# Altium integrated library Maxim Sensors.IntLib: 1172 symbols (part 46 of 61)
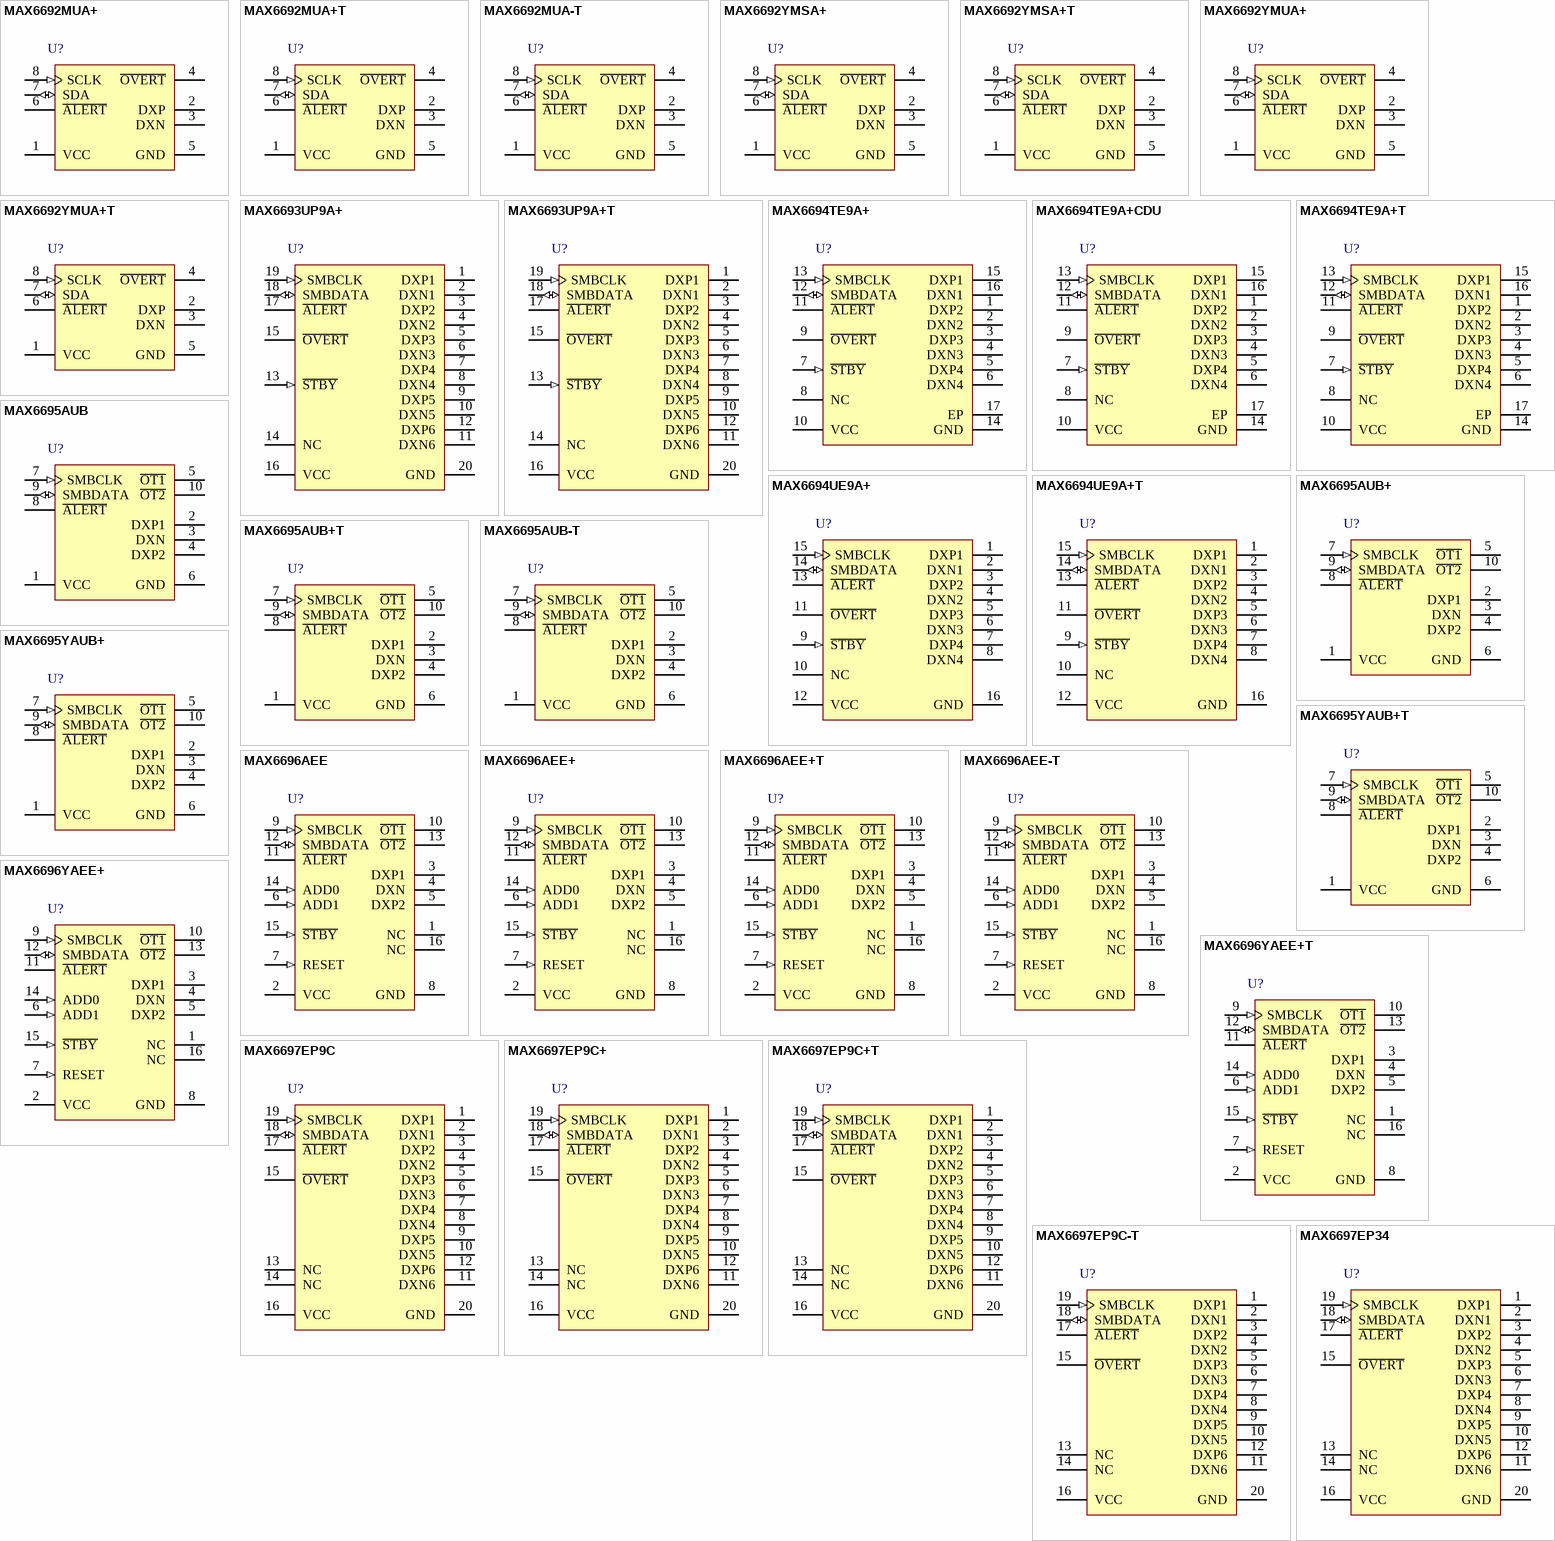
[diagram p78: symbols MAX6692MUA+ to MAX6697EP34]

## MAX6695YAUB+
designator U?
Dual Remote Temperature Sensor with SMBus Interface, -40 to 125 degC, 10-Pin SOP (U10CN1), Pb-Free; Generic Part Number: MAX6695; PartNumber: MAX6695YAUB+; Alarm Output: Alert, Overt; Functions: Dual Temperature Monitor, Remote & Local Sensor; Interface: 2-Wire/I2C/SMBus; Parasite Pwr.: No; DatasheetVersion: Rev. 3; PackageVersion: Rev. L, 07/2008; PackageReference: U10CN+1; PackageDescription: 10-Pin Micro-MAX, Thin Shrink Small-Outline (U10CN+1), Body 3 x 3 mm, Pitch 0.5 mm; Supplier 1: Digi-Key; Supplier Part Number 1: MAX6695YAUB+-ND; Supplier 2: Mouser; Supplier Part Number 2: 700-MAX6695YAUB; Mounting Technology: Surface Mount; Code_JEDEC: MO-187; ComponentLink1Description: Manufacturer URL; ComponentLink1URL: http://www.maximintegrated.com/; ComponentLink2Description: Datasheet; ComponentLink2URL: http://datasheets.maximintegrated.com/en/ds/MAX6695-MAX6696.pdf; ComponentLink3Description: Package Specification; ComponentLink3URL: http://pdfserv.maximintegrated.com/package_dwgs/21-0061.PDF
footprint MAXM-U10CN+1_N (SOP, 10-Leads, Body 3x3mm, Pitch 0.5mm, IPC Medium Density)
footprint MAXM-U10CN+1_L (SOP, 10-Leads, Body 3x3mm, Pitch 0.5mm, IPC High Density)
footprint MAXM-U10CN+1_M (SOP, 10-Leads, Body 3x3mm, Pitch 0.5mm, IPC Low Density)
pins: 1 VCC (power) "Supply Voltage Input, +3V to +3.6V. Bypass to GND with a 0.1µF capacitor. A 47 ohm series resistor is recommended but not required for additional noise filtering. See Typical Operating Circuit.", 2 DXP1 "Combined Remote-Diode Current Source and A/D Positive Input for Remote-Diode Channel 1. DO NOT LEAVE DXP1 UNCONNECTED; connect DXP1 to DXN if no remote diode is used. Place a 2200pF capacitor between DXP1 and DXN for noise (See Datasheet)", 3 DXN "Combined Remote-Diode Current Sink and A/D Negative Input. DXN is internally biased to one diode drop above ground.", 4 DXP2 "Combined Remote-Diode Current Source and A/D Positive Input for Remote-Diode Channel 2. DO NOT LEAVE DXP2 UNCONNECTED; connect DXP2 to DXN if no remote diode is used. Place a 2200pF capacitor between DXP2 and DXN for noise (See Datasheet)", 5 ~{OT1} (oc) "Overtemperature Active-Low Output, Open Drain. O\T\1\ is asserted low only when the temperature is above the programmed OT1 threshold.", 6 GND (power) "Ground", 7 SMBCLK (in) "SMBus Serial-Clock Input", 8 ~{ALERT} (oc) "SMBus Alert (Interrupt) Active-Low Output, Open-Drain. Asserts when temperature exceeds user-set limits (high or low temperature) or when a remote sensor opens. Stays asserted until acknowledged by either reading the status (See Datasheet)", 9 SMBDATA (io) "SMBus Serial-Data Input/Output, Open Drain", 10 ~{OT2} (oc) "Overtemperature Active-Low Output, Open Drain. O\T\2\ is asserted low only when temperature is above the programmed OT2 threshold."

## MAX6695YAUB+T
designator U?
Dual Remote Temperature Sensor with SMBus Interface, -40 to 125 degC, 10-Pin SOP (U10CN1), Pb-Free, Tape and Reel; Generic Part Number: MAX6695; PartNumber: MAX6695YAUB+T; Alarm Output: Alert, Overt; Functions: Dual Temperature Monitor, Remote & Local Sensor; Interface: 2-Wire/I2C/SMBus; Parasite Pwr.: No; DatasheetVersion: Rev. 3; PackageVersion: Rev. L, 07/2008; PackageReference: U10CN+1; PackageDescription: 10-Pin Micro-MAX, Thin Shrink Small-Outline (U10CN+1), Body 3 x 3 mm, Pitch 0.5 mm; Supplier 1: Digi-Key; Supplier Part Number 1: MAX6695YAUB+T-ND; Supplier 2: Mouser; Supplier Part Number 2: 700-MAX6695YAUBT; Packing: Tape and Reel; Mounting Technology: Surface Mount; Code_JEDEC: MO-187; ComponentLink1Description: Manufacturer URL; ComponentLink1URL: http://www.maximintegrated.com/; ComponentLink2Description: Datasheet; ComponentLink2URL: http://datasheets.maximintegrated.com/en/ds/MAX6695-MAX6696.pdf; ComponentLink3Description: Package Specification; ComponentLink3URL: http://pdfserv.maximintegrated.com/package_dwgs/21-0061.PDF
footprint MAXM-U10CN+1_N (SOP, 10-Leads, Body 3x3mm, Pitch 0.5mm, IPC Medium Density)
footprint MAXM-U10CN+1_L (SOP, 10-Leads, Body 3x3mm, Pitch 0.5mm, IPC High Density)
footprint MAXM-U10CN+1_M (SOP, 10-Leads, Body 3x3mm, Pitch 0.5mm, IPC Low Density)
pins: 1 VCC (power) "Supply Voltage Input, +3V to +3.6V. Bypass to GND with a 0.1µF capacitor. A 47 ohm series resistor is recommended but not required for additional noise filtering. See Typical Operating Circuit.", 2 DXP1 "Combined Remote-Diode Current Source and A/D Positive Input for Remote-Diode Channel 1. DO NOT LEAVE DXP1 UNCONNECTED; connect DXP1 to DXN if no remote diode is used. Place a 2200pF capacitor between DXP1 and DXN for noise (See Datasheet)", 3 DXN "Combined Remote-Diode Current Sink and A/D Negative Input. DXN is internally biased to one diode drop above ground.", 4 DXP2 "Combined Remote-Diode Current Source and A/D Positive Input for Remote-Diode Channel 2. DO NOT LEAVE DXP2 UNCONNECTED; connect DXP2 to DXN if no remote diode is used. Place a 2200pF capacitor between DXP2 and DXN for noise (See Datasheet)", 5 ~{OT1} (oc) "Overtemperature Active-Low Output, Open Drain. O\T\1\ is asserted low only when the temperature is above the programmed OT1 threshold.", 6 GND (power) "Ground", 7 SMBCLK (in) "SMBus Serial-Clock Input", 8 ~{ALERT} (oc) "SMBus Alert (Interrupt) Active-Low Output, Open-Drain. Asserts when temperature exceeds user-set limits (high or low temperature) or when a remote sensor opens. Stays asserted until acknowledged by either reading the status (See Datasheet)", 9 SMBDATA (io) "SMBus Serial-Data Input/Output, Open Drain", 10 ~{OT2} (oc) "Overtemperature Active-Low Output, Open Drain. O\T\2\ is asserted low only when temperature is above the programmed OT2 threshold."

## MAX6696AEE
designator U?
Dual Temperature Sensor with SMBus Interface, -40 to 125 degC, 16-Pin SOP (E16-1); Generic Part Number: MAX6696; PartNumber: MAX6696AEE; Alarm Output: Alert, Overt; Interface: 2-Wire/I2C/SMBus; Parasite Pwr.: No; DatasheetVersion: Rev. 3; PackageVersion: Rev. K, 04/2012; PackageReference: E16-1; PackageDescription: 16-Pin Quarter Small-Outline Package (E16-1), Body 4.90 x 3.89 mm, Pitch 0.635 mm; Supplier 1: Mouser; Supplier Part Number 1: N/A; Functions: Dual Temperature Sensor; Mounting Technology: Surface Mount; Code_JEDEC: MO137; ComponentLink1Description: Manufacturer URL; ComponentLink1URL: http://www.maximintegrated.com/; ComponentLink2Description: Datasheet; ComponentLink2URL: http://datasheets.maximintegrated.com/en/ds/MAX6695-MAX6696.pdf; ComponentLink3Description: Package Specification; ComponentLink3URL: http://pdfserv.maximintegrated.com/package_dwgs/21-0055.PDF
footprint MAXM-E16-1_N (SOP, 16-Leads, Body 4.9x3.89mm, Pitch 0.635mm, IPC Medium Density)
footprint MAXM-E16-1_L (SOP, 16-Leads, Body 4.9x3.89mm, Pitch 0.635mm, IPC High Density)
footprint MAXM-E16-1_M (SOP, 16-Leads, Body 4.9x3.89mm, Pitch 0.635mm, IPC Low Density)
pins: 1 NC "No Connect", 2 VCC (power) "Supply Voltage Input, +3V to +3.6V. Bypass to GND with a 0.1uF capacitor. A 47 ohm series resistor is recommended but not required for additional noise filtering. See Typical Operating Circuit.", 3 DXP1 "Combined Remote-Diode Current Source and A/D Positive Input for Remote-Diode Channel 1. DO NOT LEAVE DXP1 UNCONNECTED; connect DXP1 to DXN if no remote diode is used. Place a 2200pF capacitor between DXP1 and DXN for noise (See Datasheet)", 4 DXN "Combined Remote-Diode Current Sink and A/D Negative Input. DXN is internally biased to one diode drop above ground.", 5 DXP2 "Combined Remote-Diode Current Source and A/D Positive Input for Remote-Diode Channel 2. DO NOT LEAVE DXP2 UNCONNECTED; connect DXP2 to DXN if no remote diode is used. Place a 2200pF capacitor between DXP2 and DXN for noise (See Datasheet)", 6 ADD1 (in) "SMBus Slave Address Select Input (Table 10). ADD0 and ADD1 are sampled upon power-up.", 7 RESET (in) "Reset Input. Drive RESET high to set all registers to their default values (POR state). Pull RESET low for normal operation.", 8 GND (power) "Ground", 9 SMBCLK (in) "SMBus Serial-Clock Input", 10 ~{OT1} (oc) "Overtemperature Active-Low Output, Open Drain. O\T\1\ is asserted low only when the temperature is above the programmed OT1 threshold.", 11 ~{ALERT} (oc) "SMBus Alert (Interrupt) Active-Low Output, Open-Drain. Asserts when temperature exceeds user-set limits (high or low temperature) or when a remote sensor opens. Stays asserted until acknowledged by either reading the status (See Datasheet)", 12 SMBDATA (io) "SMBus Serial-Data Input/Output, Open Drain", 13 ~{OT2} (oc) "Overtemperature Active-Low Output, Open Drain. O\T\2\ is asserted low only when temperature is above the programmed OT2 threshold.", 14 ADD0 (in) "SMBus Slave Address Select Input (Table 10). ADD0 and ADD1 are sampled upon power-up.", 15 ~{STBY} (in) "Hardware Standby Input. Pull S\T\B\Y\ low to put the device into standby mode. All registers’ data are maintained.", 16 NC "No Connect"

## MAX6696AEE+
designator U?
Dual Temperature Sensor with SMBus Interface, -40 to 125 degC, 16-Pin SOP (E16+1), Pb-Free; Generic Part Number: MAX6696; PartNumber: MAX6696AEE+; Alarm Output: Alert, Overt; Interface: 2-Wire/I2C/SMBus; Parasite Pwr.: No; DatasheetVersion: Rev. 3; PackageVersion: Rev. K, 04/2012; PackageReference: E16+1; PackageDescription: 16-Pin Quarter Small-Outline Package (E16+1), Body 4.90 x 3.89 mm, Pitch 0.635 mm; Supplier 1: Digi-Key; Supplier Part Number 1: MAX6696AEE+-ND; Supplier 2: Mouser; Supplier Part Number 2: 700-MAX6696AEE; Functions: Dual Temperature Sensor; Mounting Technology: Surface Mount; Code_JEDEC: MO137; ComponentLink1Description: Manufacturer URL; ComponentLink1URL: http://www.maximintegrated.com/; ComponentLink2Description: Datasheet; ComponentLink2URL: http://datasheets.maximintegrated.com/en/ds/MAX6695-MAX6696.pdf; ComponentLink3Description: Package Specification; ComponentLink3URL: http://pdfserv.maximintegrated.com/package_dwgs/21-0055.PDF
footprint MAXM-E16+1_N (SOP, 16-Leads, Body 4.9x3.89mm, Pitch 0.635mm, IPC Medium Density)
footprint MAXM-E16+1_L (SOP, 16-Leads, Body 4.9x3.89mm, Pitch 0.635mm, IPC High Density)
footprint MAXM-E16+1_M (SOP, 16-Leads, Body 4.9x3.89mm, Pitch 0.635mm, IPC Low Density)
pins: 1 NC "No Connect", 2 VCC (power) "Supply Voltage Input, +3V to +3.6V. Bypass to GND with a 0.1uF capacitor. A 47 ohm series resistor is recommended but not required for additional noise filtering. See Typical Operating Circuit.", 3 DXP1 "Combined Remote-Diode Current Source and A/D Positive Input for Remote-Diode Channel 1. DO NOT LEAVE DXP1 UNCONNECTED; connect DXP1 to DXN if no remote diode is used. Place a 2200pF capacitor between DXP1 and DXN for noise (See Datasheet)", 4 DXN "Combined Remote-Diode Current Sink and A/D Negative Input. DXN is internally biased to one diode drop above ground.", 5 DXP2 "Combined Remote-Diode Current Source and A/D Positive Input for Remote-Diode Channel 2. DO NOT LEAVE DXP2 UNCONNECTED; connect DXP2 to DXN if no remote diode is used. Place a 2200pF capacitor between DXP2 and DXN for noise (See Datasheet)", 6 ADD1 (in) "SMBus Slave Address Select Input (Table 10). ADD0 and ADD1 are sampled upon power-up.", 7 RESET (in) "Reset Input. Drive RESET high to set all registers to their default values (POR state). Pull RESET low for normal operation.", 8 GND (power) "Ground", 9 SMBCLK (in) "SMBus Serial-Clock Input", 10 ~{OT1} (oc) "Overtemperature Active-Low Output, Open Drain. O\T\1\ is asserted low only when the temperature is above the programmed OT1 threshold.", 11 ~{ALERT} (oc) "SMBus Alert (Interrupt) Active-Low Output, Open-Drain. Asserts when temperature exceeds user-set limits (high or low temperature) or when a remote sensor opens. Stays asserted until acknowledged by either reading the status (See Datasheet)", 12 SMBDATA (io) "SMBus Serial-Data Input/Output, Open Drain", 13 ~{OT2} (oc) "Overtemperature Active-Low Output, Open Drain. O\T\2\ is asserted low only when temperature is above the programmed OT2 threshold.", 14 ADD0 (in) "SMBus Slave Address Select Input (Table 10). ADD0 and ADD1 are sampled upon power-up.", 15 ~{STBY} (in) "Hardware Standby Input. Pull S\T\B\Y\ low to put the device into standby mode. All registers’ data are maintained.", 16 NC "No Connect"

## MAX6696AEE+T
designator U?
Dual Temperature Sensor with SMBus Interface, -40 to 125 degC, 16-Pin SOP (E16+1), Pb-Free, Tape and Reel; Generic Part Number: MAX6696; PartNumber: MAX6696AEE+T; Alarm Output: Alert, Overt; Interface: 2-Wire/I2C/SMBus; Parasite Pwr.: No; DatasheetVersion: Rev. 3; PackageVersion: Rev. K, 04/2012; PackageReference: E16+1; PackageDescription: 16-Pin Quarter Small-Outline Package (E16+1), Body 4.90 x 3.89 mm, Pitch 0.635 mm; Supplier 1: Digi-Key; Supplier Part Number 1: MAX6696AEE+TTR-ND; Supplier 2: Digi-Key; Supplier Part Number 2: MAX6696AEE+TCT-ND; Supplier 3: Digi-Key; Supplier Part Number 3: MAX6696AEE+TDKR-ND; Supplier 4: Mouser; Supplier Part Number 4: 700-MAX6696AEET; Functions: Dual Temperature Sensor; Packing: Tape and Reel; Mounting Technology: Surface Mount; Code_JEDEC: MO137; ComponentLink1Description: Manufacturer URL; ComponentLink1URL: http://www.maximintegrated.com/; ComponentLink2Description: Datasheet; ComponentLink2URL: http://datasheets.maximintegrated.com/en/ds/MAX6695-MAX6696.pdf; ComponentLink3Description: Package Specification; ComponentLink3URL: http://pdfserv.maximintegrated.com/package_dwgs/21-0055.PDF
footprint MAXM-E16+1_N (SOP, 16-Leads, Body 4.9x3.89mm, Pitch 0.635mm, IPC Medium Density)
footprint MAXM-E16+1_L (SOP, 16-Leads, Body 4.9x3.89mm, Pitch 0.635mm, IPC High Density)
footprint MAXM-E16+1_M (SOP, 16-Leads, Body 4.9x3.89mm, Pitch 0.635mm, IPC Low Density)
pins: 1 NC "No Connect", 2 VCC (power) "Supply Voltage Input, +3V to +3.6V. Bypass to GND with a 0.1uF capacitor. A 47 ohm series resistor is recommended but not required for additional noise filtering. See Typical Operating Circuit.", 3 DXP1 "Combined Remote-Diode Current Source and A/D Positive Input for Remote-Diode Channel 1. DO NOT LEAVE DXP1 UNCONNECTED; connect DXP1 to DXN if no remote diode is used. Place a 2200pF capacitor between DXP1 and DXN for noise (See Datasheet)", 4 DXN "Combined Remote-Diode Current Sink and A/D Negative Input. DXN is internally biased to one diode drop above ground.", 5 DXP2 "Combined Remote-Diode Current Source and A/D Positive Input for Remote-Diode Channel 2. DO NOT LEAVE DXP2 UNCONNECTED; connect DXP2 to DXN if no remote diode is used. Place a 2200pF capacitor between DXP2 and DXN for noise (See Datasheet)", 6 ADD1 (in) "SMBus Slave Address Select Input (Table 10). ADD0 and ADD1 are sampled upon power-up.", 7 RESET (in) "Reset Input. Drive RESET high to set all registers to their default values (POR state). Pull RESET low for normal operation.", 8 GND (power) "Ground", 9 SMBCLK (in) "SMBus Serial-Clock Input", 10 ~{OT1} (oc) "Overtemperature Active-Low Output, Open Drain. O\T\1\ is asserted low only when the temperature is above the programmed OT1 threshold.", 11 ~{ALERT} (oc) "SMBus Alert (Interrupt) Active-Low Output, Open-Drain. Asserts when temperature exceeds user-set limits (high or low temperature) or when a remote sensor opens. Stays asserted until acknowledged by either reading the status (See Datasheet)", 12 SMBDATA (io) "SMBus Serial-Data Input/Output, Open Drain", 13 ~{OT2} (oc) "Overtemperature Active-Low Output, Open Drain. O\T\2\ is asserted low only when temperature is above the programmed OT2 threshold.", 14 ADD0 (in) "SMBus Slave Address Select Input (Table 10). ADD0 and ADD1 are sampled upon power-up.", 15 ~{STBY} (in) "Hardware Standby Input. Pull S\T\B\Y\ low to put the device into standby mode. All registers’ data are maintained.", 16 NC "No Connect"

## MAX6696AEE-T
designator U?
Dual Temperature Sensor with SMBus Interface, -40 to 125 degC, 16-Pin SOP (E16-1), Tape and Reel; Generic Part Number: MAX6696; PartNumber: MAX6696AEE-T; Alarm Output: Alert, Overt; Interface: 2-Wire/I2C/SMBus; Parasite Pwr.: No; DatasheetVersion: Rev. 3; PackageVersion: Rev. K, 04/2012; PackageReference: E16-1; PackageDescription: 16-Pin Quarter Small-Outline Package (E16-1), Body 4.90 x 3.89 mm, Pitch 0.635 mm; Supplier 1: Mouser; Supplier Part Number 1: N/A; Functions: Dual Temperature Sensor; Packing: Tape and Reel; Mounting Technology: Surface Mount; Code_JEDEC: MO137; ComponentLink1Description: Manufacturer URL; ComponentLink1URL: http://www.maximintegrated.com/; ComponentLink2Description: Datasheet; ComponentLink2URL: http://datasheets.maximintegrated.com/en/ds/MAX6695-MAX6696.pdf; ComponentLink3Description: Package Specification; ComponentLink3URL: http://pdfserv.maximintegrated.com/package_dwgs/21-0055.PDF
footprint MAXM-E16-1_N (SOP, 16-Leads, Body 4.9x3.89mm, Pitch 0.635mm, IPC Medium Density)
footprint MAXM-E16-1_L (SOP, 16-Leads, Body 4.9x3.89mm, Pitch 0.635mm, IPC High Density)
footprint MAXM-E16-1_M (SOP, 16-Leads, Body 4.9x3.89mm, Pitch 0.635mm, IPC Low Density)
pins: 1 NC "No Connect", 2 VCC (power) "Supply Voltage Input, +3V to +3.6V. Bypass to GND with a 0.1uF capacitor. A 47 ohm series resistor is recommended but not required for additional noise filtering. See Typical Operating Circuit.", 3 DXP1 "Combined Remote-Diode Current Source and A/D Positive Input for Remote-Diode Channel 1. DO NOT LEAVE DXP1 UNCONNECTED; connect DXP1 to DXN if no remote diode is used. Place a 2200pF capacitor between DXP1 and DXN for noise (See Datasheet)", 4 DXN "Combined Remote-Diode Current Sink and A/D Negative Input. DXN is internally biased to one diode drop above ground.", 5 DXP2 "Combined Remote-Diode Current Source and A/D Positive Input for Remote-Diode Channel 2. DO NOT LEAVE DXP2 UNCONNECTED; connect DXP2 to DXN if no remote diode is used. Place a 2200pF capacitor between DXP2 and DXN for noise (See Datasheet)", 6 ADD1 (in) "SMBus Slave Address Select Input (Table 10). ADD0 and ADD1 are sampled upon power-up.", 7 RESET (in) "Reset Input. Drive RESET high to set all registers to their default values (POR state). Pull RESET low for normal operation.", 8 GND (power) "Ground", 9 SMBCLK (in) "SMBus Serial-Clock Input", 10 ~{OT1} (oc) "Overtemperature Active-Low Output, Open Drain. O\T\1\ is asserted low only when the temperature is above the programmed OT1 threshold.", 11 ~{ALERT} (oc) "SMBus Alert (Interrupt) Active-Low Output, Open-Drain. Asserts when temperature exceeds user-set limits (high or low temperature) or when a remote sensor opens. Stays asserted until acknowledged by either reading the status (See Datasheet)", 12 SMBDATA (io) "SMBus Serial-Data Input/Output, Open Drain", 13 ~{OT2} (oc) "Overtemperature Active-Low Output, Open Drain. O\T\2\ is asserted low only when temperature is above the programmed OT2 threshold.", 14 ADD0 (in) "SMBus Slave Address Select Input (Table 10). ADD0 and ADD1 are sampled upon power-up.", 15 ~{STBY} (in) "Hardware Standby Input. Pull S\T\B\Y\ low to put the device into standby mode. All registers’ data are maintained.", 16 NC "No Connect"

## MAX6696YAEE+
designator U?
Dual Temperature Sensor with SMBus Interface, -40 to 125 degC, 16-Pin SOP (E16+1), Pb-Free; Generic Part Number: MAX6696; PartNumber: MAX6696YAEE+; Alarm Output: Alert, Overt; Interface: 2-Wire/I2C/SMBus; Parasite Pwr.: No; DatasheetVersion: Rev. 3; PackageVersion: Rev. K, 04/2012; PackageReference: E16+1; PackageDescription: 16-Pin Quarter Small-Outline Package (E16+1), Body 4.90 x 3.89 mm, Pitch 0.635 mm; Supplier 1: Digi-Key; Supplier Part Number 1: MAX6696YAEE+-ND; Supplier 2: Mouser; Supplier Part Number 2: 700-MAX6696YAEE; Functions: Dual Temperature Sensor; Mounting Technology: Surface Mount; Code_JEDEC: MO137; ComponentLink1Description: Manufacturer URL; ComponentLink1URL: http://www.maximintegrated.com/; ComponentLink2Description: Datasheet; ComponentLink2URL: http://datasheets.maximintegrated.com/en/ds/MAX6695-MAX6696.pdf; ComponentLink3Description: Package Specification; ComponentLink3URL: http://pdfserv.maximintegrated.com/package_dwgs/21-0055.PDF
footprint MAXM-E16+1_N (SOP, 16-Leads, Body 4.9x3.89mm, Pitch 0.635mm, IPC Medium Density)
footprint MAXM-E16+1_L (SOP, 16-Leads, Body 4.9x3.89mm, Pitch 0.635mm, IPC High Density)
footprint MAXM-E16+1_M (SOP, 16-Leads, Body 4.9x3.89mm, Pitch 0.635mm, IPC Low Density)
pins: 1 NC "No Connect", 2 VCC (power) "Supply Voltage Input, +3V to +3.6V. Bypass to GND with a 0.1uF capacitor. A 47 ohm series resistor is recommended but not required for additional noise filtering. See Typical Operating Circuit.", 3 DXP1 "Combined Remote-Diode Current Source and A/D Positive Input for Remote-Diode Channel 1. DO NOT LEAVE DXP1 UNCONNECTED; connect DXP1 to DXN if no remote diode is used. Place a 2200pF capacitor between DXP1 and DXN for noise (See Datasheet)", 4 DXN "Combined Remote-Diode Current Sink and A/D Negative Input. DXN is internally biased to one diode drop above ground.", 5 DXP2 "Combined Remote-Diode Current Source and A/D Positive Input for Remote-Diode Channel 2. DO NOT LEAVE DXP2 UNCONNECTED; connect DXP2 to DXN if no remote diode is used. Place a 2200pF capacitor between DXP2 and DXN for noise (See Datasheet)", 6 ADD1 (in) "SMBus Slave Address Select Input (Table 10). ADD0 and ADD1 are sampled upon power-up.", 7 RESET (in) "Reset Input. Drive RESET high to set all registers to their default values (POR state). Pull RESET low for normal operation.", 8 GND (power) "Ground", 9 SMBCLK (in) "SMBus Serial-Clock Input", 10 ~{OT1} (oc) "Overtemperature Active-Low Output, Open Drain. O\T\1\ is asserted low only when the temperature is above the programmed OT1 threshold.", 11 ~{ALERT} (oc) "SMBus Alert (Interrupt) Active-Low Output, Open-Drain. Asserts when temperature exceeds user-set limits (high or low temperature) or when a remote sensor opens. Stays asserted until acknowledged by either reading the status (See Datasheet)", 12 SMBDATA (io) "SMBus Serial-Data Input/Output, Open Drain", 13 ~{OT2} (oc) "Overtemperature Active-Low Output, Open Drain. O\T\2\ is asserted low only when temperature is above the programmed OT2 threshold.", 14 ADD0 (in) "SMBus Slave Address Select Input (Table 10). ADD0 and ADD1 are sampled upon power-up.", 15 ~{STBY} (in) "Hardware Standby Input. Pull S\T\B\Y\ low to put the device into standby mode. All registers’ data are maintained.", 16 NC "No Connect"

## MAX6696YAEE+T
designator U?
Dual Temperature Sensor with SMBus Interface, -40 to 125 degC, 16-Pin SOP (E16+1), Pb-Free, Tape and Reel; Generic Part Number: MAX6696; PartNumber: MAX6696YAEE+T; Alarm Output: Alert, Overt; Interface: 2-Wire/I2C/SMBus; Parasite Pwr.: No; DatasheetVersion: Rev. 3; PackageVersion: Rev. K, 04/2012; PackageReference: E16+1; PackageDescription: 16-Pin Quarter Small-Outline Package (E16+1), Body 4.90 x 3.89 mm, Pitch 0.635 mm; Supplier 1: Digi-Key; Supplier Part Number 1: MAX6696YAEE+T-ND; Supplier 2: Mouser; Supplier Part Number 2: 700-MAX6696YAEET; Functions: Dual Temperature Sensor; Packing: Tape and Reel; Mounting Technology: Surface Mount; Code_JEDEC: MO137; ComponentLink1Description: Manufacturer URL; ComponentLink1URL: http://www.maximintegrated.com/; ComponentLink2Description: Datasheet; ComponentLink2URL: http://datasheets.maximintegrated.com/en/ds/MAX6695-MAX6696.pdf; ComponentLink3Description: Package Specification; ComponentLink3URL: http://pdfserv.maximintegrated.com/package_dwgs/21-0055.PDF
footprint MAXM-E16+1_N (SOP, 16-Leads, Body 4.9x3.89mm, Pitch 0.635mm, IPC Medium Density)
footprint MAXM-E16+1_L (SOP, 16-Leads, Body 4.9x3.89mm, Pitch 0.635mm, IPC High Density)
footprint MAXM-E16+1_M (SOP, 16-Leads, Body 4.9x3.89mm, Pitch 0.635mm, IPC Low Density)
pins: 1 NC "No Connect", 2 VCC (power) "Supply Voltage Input, +3V to +3.6V. Bypass to GND with a 0.1uF capacitor. A 47 ohm series resistor is recommended but not required for additional noise filtering. See Typical Operating Circuit.", 3 DXP1 "Combined Remote-Diode Current Source and A/D Positive Input for Remote-Diode Channel 1. DO NOT LEAVE DXP1 UNCONNECTED; connect DXP1 to DXN if no remote diode is used. Place a 2200pF capacitor between DXP1 and DXN for noise (See Datasheet)", 4 DXN "Combined Remote-Diode Current Sink and A/D Negative Input. DXN is internally biased to one diode drop above ground.", 5 DXP2 "Combined Remote-Diode Current Source and A/D Positive Input for Remote-Diode Channel 2. DO NOT LEAVE DXP2 UNCONNECTED; connect DXP2 to DXN if no remote diode is used. Place a 2200pF capacitor between DXP2 and DXN for noise (See Datasheet)", 6 ADD1 (in) "SMBus Slave Address Select Input (Table 10). ADD0 and ADD1 are sampled upon power-up.", 7 RESET (in) "Reset Input. Drive RESET high to set all registers to their default values (POR state). Pull RESET low for normal operation.", 8 GND (power) "Ground", 9 SMBCLK (in) "SMBus Serial-Clock Input", 10 ~{OT1} (oc) "Overtemperature Active-Low Output, Open Drain. O\T\1\ is asserted low only when the temperature is above the programmed OT1 threshold.", 11 ~{ALERT} (oc) "SMBus Alert (Interrupt) Active-Low Output, Open-Drain. Asserts when temperature exceeds user-set limits (high or low temperature) or when a remote sensor opens. Stays asserted until acknowledged by either reading the status (See Datasheet)", 12 SMBDATA (io) "SMBus Serial-Data Input/Output, Open Drain", 13 ~{OT2} (oc) "Overtemperature Active-Low Output, Open Drain. O\T\2\ is asserted low only when temperature is above the programmed OT2 threshold.", 14 ADD0 (in) "SMBus Slave Address Select Input (Table 10). ADD0 and ADD1 are sampled upon power-up.", 15 ~{STBY} (in) "Hardware Standby Input. Pull S\T\B\Y\ low to put the device into standby mode. All registers’ data are maintained.", 16 NC "No Connect"

## MAX6697EP9C
designator U?
Seven-Channel Temperature Monitor, 11 Bits Temperature Resolution, -40 to 125 degC, 20-Pin SOP (E20-1); Generic Part Number: MAX6697; PartNumber: MAX6697EP9C; Alarm Output: Alert, Overt; Functions: Dual Temperature Alarms, Multi-Channel Temperature Monitor ,Remote & Local Sensor; Interface: 2-Wire/I2C/SMBus; Parasite Pwr.: No; DatasheetVersion: Rev. 3; PackageVersion: Rev. K, 04/2012; PackageReference: E20-1; PackageDescription: 20-Pin Quarter Small-Outline Package, Body 3.9 x 8.65 mm, Pitch 0.635 mm; Supplier 1: Mouser; Supplier Part Number 1: N/A; Mounting Technology: Surface Mount; Code_JEDEC: MO-137; ComponentLink1Description: Manufacturer URL; ComponentLink1URL: http://www.maximintegrated.com/; ComponentLink2Description: Datasheet; ComponentLink2URL: http://datasheets.maximintegrated.com/en/ds/MAX6697.pdf; ComponentLink3Description: Package Specification; ComponentLink3URL: http://pdfserv.maximintegrated.com/package_dwgs/21-0055.PDF
footprint MAXM-E20-1_N (SOP, 20-Leads, Body 8.65x3.9mm, Pitch 0.635mm, IPC Medium Density)
footprint MAXM-E20-1_L (SOP, 20-Leads, Body 8.65x3.9mm, Pitch 0.635mm, IPC High Density)
footprint MAXM-E20-1_M (SOP, 20-Leads, Body 8.65x3.9mm, Pitch 0.635mm, IPC Low Density)
pins: 1 DXP1 "Combined Current Source and A/D Positive Input for Channel 1 Remote Diode. Connect to the anode of a remote-diode-connected temperature-sensing transistor. Leave floating or connect to VCC if no remote diode is used. Place a (See Datasheet)", 2 DXN1 "Cathode Input for Channel 1 Remote Diode. Connect the cathode of the channel 1 remote-diodeconnected transistor to DXN1.", 3 DXP2 "Combined Current Source and A/D Positive Input for Channel 2 Remote Diode. Connect to the anode of a remote-diode-connected temperature-sensing transistor. Leave floating or connect to VCC if no remote diode is used. Place a (See Datasheet)", 4 DXN2 "Cathode Input for Channel 2 Remote Diode. Connect the cathode of the channel 2 remote-diodeconnected transistor to DXN2.", 5 DXP3 "Combined Current Source and A/D Positive Input for Channel 3 Remote Diode. Connect to the anode of a remote-diode-connected temperature-sensing transistor. Leave floating or connect to VCC if no remote diode is used. Place a (See Datasheet)", 6 DXN3 "Cathode Input for Channel 3 Remote Diode. Connect the cathode of the channel 3 remote-diodeconnected transistor to DXN3.", 7 DXP4 "Combined Current Source and A/D Positive Input for Channel 4 Remote Diode. Connect to the anode of a remote-diode-connected temperature-sensing transistor. Leave floating or connect to VCC if no remote diode is used. Place a (See Datasheet)", 8 DXN4 "Cathode Input for Channel 4 Remote Diode. Connect the cathode of the channel 4 remote-diodeconnected transistor to DXN4.", 9 DXP5 "Combined Current Source and A/D Positive Input for Channel 5 Remote Diode. Connect to the anode of a remote-diode-connected temperature-sensing transistor. Leave floating or connect to VCC if no remote diode is used. Place a (See Datasheet)", 10 DXN5 "Cathode Input for Channel 5 Remote Diode. Connect the cathode of the channel 5 remote-diodeconnected transistor to DXN5.", 11 DXN6 "Cathode Input for Channel 6 Remote Diode. Connect the cathode of the channel 6 remote-diodeconnected transistor to DXN6.", 12 DXP6 "Combined Current Source and A/D Positive Input for Channel 6 Remote Diode. Connect to the anode of a remote-diode-connected temperature-sensing transistor. Leave floating or connect to VCC if no remote diode is used. Place a (See Datasheet)", 13 NC "No Connect. Must be connected to ground.", 14 NC "No Connect. Must be connected to ground.", 15 ~{OVERT} (oc) "Overtemperature Active-Low, Open-Drain Output. O\V\E\R\T\ asserts low when the temperature of channels 1, 4, 5, and 6 exceeds the programmed threshold limit.", 16 VCC (power) "Supply Voltage Input. Bypass to GND with a 0.1µF capacitor.", 17 ~{ALERT} (oc) "SMBus Alert (Interrupt), Active-Low, Open-Drain Output. A\L\E\R\T\ asserts low when the temperature of any channel exceeds the programmed A\L\E\R\T\ threshold.", 18 SMBDATA (io) "SMBus Serial-Data Input/Output. Connect to a pullup resistor.", 19 SMBCLK (in) "SMBus Serial-Clock Input. Connect to a pullup resistor.", 20 GND (power) "Ground"

## MAX6697EP9C+
designator U?
Seven-Channel Temperature Monitor, 11 Bits Temperature Resolution, -40 to 125 degC, 20-Pin SOP (E20+1), Pb-Free; Generic Part Number: MAX6697; PartNumber: MAX6697EP9C+; Alarm Output: Alert, Overt; Functions: Dual Temperature Alarms, Multi-Channel Temperature Monitor ,Remote & Local Sensor; Interface: 2-Wire/I2C/SMBus; Parasite Pwr.: No; DatasheetVersion: Rev. 3; PackageVersion: Rev. K, 04/2012; PackageReference: E20+1; PackageDescription: 20-Pin Quarter Small-Outline Package, Body 3.9 x 8.65 mm, Pitch 0.635 mm; Supplier 1: Digi-Key; Supplier Part Number 1: MAX6697EP9C+-ND; Supplier 2: Mouser; Supplier Part Number 2: 700-MAX6697EP9C; Mounting Technology: Surface Mount; Code_JEDEC: MO-137; ComponentLink1Description: Manufacturer URL; ComponentLink1URL: http://www.maximintegrated.com/; ComponentLink2Description: Datasheet; ComponentLink2URL: http://datasheets.maximintegrated.com/en/ds/MAX6697.pdf; ComponentLink3Description: Package Specification; ComponentLink3URL: http://pdfserv.maximintegrated.com/package_dwgs/21-0055.PDF
footprint MAXM-E20+1_N (SOP, 20-Leads, Body 8.65x3.9mm, Pitch 0.635mm, IPC Medium Density)
footprint MAXM-E20+1_L (SOP, 20-Leads, Body 8.65x3.9mm, Pitch 0.635mm, IPC High Density)
footprint MAXM-E20+1_M (SOP, 20-Leads, Body 8.65x3.9mm, Pitch 0.635mm, IPC Low Density)
pins: 1 DXP1 "Combined Current Source and A/D Positive Input for Channel 1 Remote Diode. Connect to the anode of a remote-diode-connected temperature-sensing transistor. Leave floating or connect to VCC if no remote diode is used. Place a (See Datasheet)", 2 DXN1 "Cathode Input for Channel 1 Remote Diode. Connect the cathode of the channel 1 remote-diodeconnected transistor to DXN1.", 3 DXP2 "Combined Current Source and A/D Positive Input for Channel 2 Remote Diode. Connect to the anode of a remote-diode-connected temperature-sensing transistor. Leave floating or connect to VCC if no remote diode is used. Place a (See Datasheet)", 4 DXN2 "Cathode Input for Channel 2 Remote Diode. Connect the cathode of the channel 2 remote-diodeconnected transistor to DXN2.", 5 DXP3 "Combined Current Source and A/D Positive Input for Channel 3 Remote Diode. Connect to the anode of a remote-diode-connected temperature-sensing transistor. Leave floating or connect to VCC if no remote diode is used. Place a (See Datasheet)", 6 DXN3 "Cathode Input for Channel 3 Remote Diode. Connect the cathode of the channel 3 remote-diodeconnected transistor to DXN3.", 7 DXP4 "Combined Current Source and A/D Positive Input for Channel 4 Remote Diode. Connect to the anode of a remote-diode-connected temperature-sensing transistor. Leave floating or connect to VCC if no remote diode is used. Place a (See Datasheet)", 8 DXN4 "Cathode Input for Channel 4 Remote Diode. Connect the cathode of the channel 4 remote-diodeconnected transistor to DXN4.", 9 DXP5 "Combined Current Source and A/D Positive Input for Channel 5 Remote Diode. Connect to the anode of a remote-diode-connected temperature-sensing transistor. Leave floating or connect to VCC if no remote diode is used. Place a (See Datasheet)", 10 DXN5 "Cathode Input for Channel 5 Remote Diode. Connect the cathode of the channel 5 remote-diodeconnected transistor to DXN5.", 11 DXN6 "Cathode Input for Channel 6 Remote Diode. Connect the cathode of the channel 6 remote-diodeconnected transistor to DXN6.", 12 DXP6 "Combined Current Source and A/D Positive Input for Channel 6 Remote Diode. Connect to the anode of a remote-diode-connected temperature-sensing transistor. Leave floating or connect to VCC if no remote diode is used. Place a (See Datasheet)", 13 NC "No Connect. Must be connected to ground.", 14 NC "No Connect. Must be connected to ground.", 15 ~{OVERT} (oc) "Overtemperature Active-Low, Open-Drain Output. O\V\E\R\T\ asserts low when the temperature of channels 1, 4, 5, and 6 exceeds the programmed threshold limit.", 16 VCC (power) "Supply Voltage Input. Bypass to GND with a 0.1µF capacitor.", 17 ~{ALERT} (oc) "SMBus Alert (Interrupt), Active-Low, Open-Drain Output. A\L\E\R\T\ asserts low when the temperature of any channel exceeds the programmed A\L\E\R\T\ threshold.", 18 SMBDATA (io) "SMBus Serial-Data Input/Output. Connect to a pullup resistor.", 19 SMBCLK (in) "SMBus Serial-Clock Input. Connect to a pullup resistor.", 20 GND (power) "Ground"

## MAX6697EP9C+T
designator U?
Seven-Channel Temperature Monitor, 11 Bits Temperature Resolution, -40 to 125 degC, 20-Pin SOP (E20+1), Pb-Free, Tape and Reel; Generic Part Number: MAX6697; PartNumber: MAX6697EP9C+T; Alarm Output: Alert, Overt; Functions: Dual Temperature Alarms, Multi-Channel Temperature Monitor ,Remote & Local Sensor; Interface: 2-Wire/I2C/SMBus; Parasite Pwr.: No; DatasheetVersion: Rev. 3; PackageVersion: Rev. K, 04/2012; PackageReference: E20+1; PackageDescription: 20-Pin Quarter Small-Outline Package, Body 3.9 x 8.65 mm, Pitch 0.635 mm; Supplier 1: Digi-Key; Supplier Part Number 1: MAX6697EP9C+T-ND; Supplier 2: Mouser; Supplier Part Number 2: 700-MAX6697EP9CT; Packing: Tape and Reel; Mounting Technology: Surface Mount; Code_JEDEC: MO-137; ComponentLink1Description: Manufacturer URL; ComponentLink1URL: http://www.maximintegrated.com/; ComponentLink2Description: Datasheet; ComponentLink2URL: http://datasheets.maximintegrated.com/en/ds/MAX6697.pdf; ComponentLink3Description: Package Specification; ComponentLink3URL: http://pdfserv.maximintegrated.com/package_dwgs/21-0055.PDF
footprint MAXM-E20+1_N (SOP, 20-Leads, Body 8.65x3.9mm, Pitch 0.635mm, IPC Medium Density)
footprint MAXM-E20+1_L (SOP, 20-Leads, Body 8.65x3.9mm, Pitch 0.635mm, IPC High Density)
footprint MAXM-E20+1_M (SOP, 20-Leads, Body 8.65x3.9mm, Pitch 0.635mm, IPC Low Density)
pins: 1 DXP1 "Combined Current Source and A/D Positive Input for Channel 1 Remote Diode. Connect to the anode of a remote-diode-connected temperature-sensing transistor. Leave floating or connect to VCC if no remote diode is used. Place a (See Datasheet)", 2 DXN1 "Cathode Input for Channel 1 Remote Diode. Connect the cathode of the channel 1 remote-diodeconnected transistor to DXN1.", 3 DXP2 "Combined Current Source and A/D Positive Input for Channel 2 Remote Diode. Connect to the anode of a remote-diode-connected temperature-sensing transistor. Leave floating or connect to VCC if no remote diode is used. Place a (See Datasheet)", 4 DXN2 "Cathode Input for Channel 2 Remote Diode. Connect the cathode of the channel 2 remote-diodeconnected transistor to DXN2.", 5 DXP3 "Combined Current Source and A/D Positive Input for Channel 3 Remote Diode. Connect to the anode of a remote-diode-connected temperature-sensing transistor. Leave floating or connect to VCC if no remote diode is used. Place a (See Datasheet)", 6 DXN3 "Cathode Input for Channel 3 Remote Diode. Connect the cathode of the channel 3 remote-diodeconnected transistor to DXN3.", 7 DXP4 "Combined Current Source and A/D Positive Input for Channel 4 Remote Diode. Connect to the anode of a remote-diode-connected temperature-sensing transistor. Leave floating or connect to VCC if no remote diode is used. Place a (See Datasheet)", 8 DXN4 "Cathode Input for Channel 4 Remote Diode. Connect the cathode of the channel 4 remote-diodeconnected transistor to DXN4.", 9 DXP5 "Combined Current Source and A/D Positive Input for Channel 5 Remote Diode. Connect to the anode of a remote-diode-connected temperature-sensing transistor. Leave floating or connect to VCC if no remote diode is used. Place a (See Datasheet)", 10 DXN5 "Cathode Input for Channel 5 Remote Diode. Connect the cathode of the channel 5 remote-diodeconnected transistor to DXN5.", 11 DXN6 "Cathode Input for Channel 6 Remote Diode. Connect the cathode of the channel 6 remote-diodeconnected transistor to DXN6.", 12 DXP6 "Combined Current Source and A/D Positive Input for Channel 6 Remote Diode. Connect to the anode of a remote-diode-connected temperature-sensing transistor. Leave floating or connect to VCC if no remote diode is used. Place a (See Datasheet)", 13 NC "No Connect. Must be connected to ground.", 14 NC "No Connect. Must be connected to ground.", 15 ~{OVERT} (oc) "Overtemperature Active-Low, Open-Drain Output. O\V\E\R\T\ asserts low when the temperature of channels 1, 4, 5, and 6 exceeds the programmed threshold limit.", 16 VCC (power) "Supply Voltage Input. Bypass to GND with a 0.1µF capacitor.", 17 ~{ALERT} (oc) "SMBus Alert (Interrupt), Active-Low, Open-Drain Output. A\L\E\R\T\ asserts low when the temperature of any channel exceeds the programmed A\L\E\R\T\ threshold.", 18 SMBDATA (io) "SMBus Serial-Data Input/Output. Connect to a pullup resistor.", 19 SMBCLK (in) "SMBus Serial-Clock Input. Connect to a pullup resistor.", 20 GND (power) "Ground"

## MAX6697EP9C-T
designator U?
Seven-Channel Temperature Monitor, 11 Bits Temperature Resolution, -40 to 125 degC, 20-Pin SOP (E20-1), Tape and Reel; Generic Part Number: MAX6697; PartNumber: MAX6697EP9C-T; Alarm Output: Alert, Overt; Functions: Dual Temperature Alarms, Multi-Channel Temperature Monitor ,Remote & Local Sensor; Interface: 2-Wire/I2C/SMBus; Parasite Pwr.: No; DatasheetVersion: Rev. 3; PackageVersion: Rev. K, 04/2012; PackageReference: E20-1; PackageDescription: 20-Pin Quarter Small-Outline Package, Body 3.9 x 8.65 mm, Pitch 0.635 mm; Supplier 1: Mouser; Supplier Part Number 1: N/A; Packing: Tape and Reel; Mounting Technology: Surface Mount; Code_JEDEC: MO-137; ComponentLink1Description: Manufacturer URL; ComponentLink1URL: http://www.maximintegrated.com/; ComponentLink2Description: Datasheet; ComponentLink2URL: http://datasheets.maximintegrated.com/en/ds/MAX6697.pdf; ComponentLink3Description: Package Specification; ComponentLink3URL: http://pdfserv.maximintegrated.com/package_dwgs/21-0055.PDF
footprint MAXM-E20-1_N (SOP, 20-Leads, Body 8.65x3.9mm, Pitch 0.635mm, IPC Medium Density)
footprint MAXM-E20-1_L (SOP, 20-Leads, Body 8.65x3.9mm, Pitch 0.635mm, IPC High Density)
footprint MAXM-E20-1_M (SOP, 20-Leads, Body 8.65x3.9mm, Pitch 0.635mm, IPC Low Density)
pins: 1 DXP1 "Combined Current Source and A/D Positive Input for Channel 1 Remote Diode. Connect to the anode of a remote-diode-connected temperature-sensing transistor. Leave floating or connect to VCC if no remote diode is used. Place a (See Datasheet)", 2 DXN1 "Cathode Input for Channel 1 Remote Diode. Connect the cathode of the channel 1 remote-diodeconnected transistor to DXN1.", 3 DXP2 "Combined Current Source and A/D Positive Input for Channel 2 Remote Diode. Connect to the anode of a remote-diode-connected temperature-sensing transistor. Leave floating or connect to VCC if no remote diode is used. Place a (See Datasheet)", 4 DXN2 "Cathode Input for Channel 2 Remote Diode. Connect the cathode of the channel 2 remote-diodeconnected transistor to DXN2.", 5 DXP3 "Combined Current Source and A/D Positive Input for Channel 3 Remote Diode. Connect to the anode of a remote-diode-connected temperature-sensing transistor. Leave floating or connect to VCC if no remote diode is used. Place a (See Datasheet)", 6 DXN3 "Cathode Input for Channel 3 Remote Diode. Connect the cathode of the channel 3 remote-diodeconnected transistor to DXN3.", 7 DXP4 "Combined Current Source and A/D Positive Input for Channel 4 Remote Diode. Connect to the anode of a remote-diode-connected temperature-sensing transistor. Leave floating or connect to VCC if no remote diode is used. Place a (See Datasheet)", 8 DXN4 "Cathode Input for Channel 4 Remote Diode. Connect the cathode of the channel 4 remote-diodeconnected transistor to DXN4.", 9 DXP5 "Combined Current Source and A/D Positive Input for Channel 5 Remote Diode. Connect to the anode of a remote-diode-connected temperature-sensing transistor. Leave floating or connect to VCC if no remote diode is used. Place a (See Datasheet)", 10 DXN5 "Cathode Input for Channel 5 Remote Diode. Connect the cathode of the channel 5 remote-diodeconnected transistor to DXN5.", 11 DXN6 "Cathode Input for Channel 6 Remote Diode. Connect the cathode of the channel 6 remote-diodeconnected transistor to DXN6.", 12 DXP6 "Combined Current Source and A/D Positive Input for Channel 6 Remote Diode. Connect to the anode of a remote-diode-connected temperature-sensing transistor. Leave floating or connect to VCC if no remote diode is used. Place a (See Datasheet)", 13 NC "No Connect. Must be connected to ground.", 14 NC "No Connect. Must be connected to ground.", 15 ~{OVERT} (oc) "Overtemperature Active-Low, Open-Drain Output. O\V\E\R\T\ asserts low when the temperature of channels 1, 4, 5, and 6 exceeds the programmed threshold limit.", 16 VCC (power) "Supply Voltage Input. Bypass to GND with a 0.1µF capacitor.", 17 ~{ALERT} (oc) "SMBus Alert (Interrupt), Active-Low, Open-Drain Output. A\L\E\R\T\ asserts low when the temperature of any channel exceeds the programmed A\L\E\R\T\ threshold.", 18 SMBDATA (io) "SMBus Serial-Data Input/Output. Connect to a pullup resistor.", 19 SMBCLK (in) "SMBus Serial-Clock Input. Connect to a pullup resistor.", 20 GND (power) "Ground"

## MAX6697EP34
designator U?
Seven-Channel Temperature Monitor, 11 Bits Temperature Resolution, -40 to 125 degC, 20-Pin SOP (E20-1); Generic Part Number: MAX6697; PartNumber: MAX6697EP34; Alarm Output: Alert, Overt; Functions: Dual Temperature Alarms, Multi-Channel Temperature Monitor ,Remote & Local Sensor; Interface: 2-Wire/I2C/SMBus; Parasite Pwr.: No; DatasheetVersion: Rev. 3; PackageVersion: Rev. K, 04/2012; PackageReference: E20-1; PackageDescription: 20-Pin Quarter Small-Outline Package, Body 3.9 x 8.65 mm, Pitch 0.635 mm; Supplier 1: Mouser; Supplier Part Number 1: N/A; Mounting Technology: Surface Mount; Code_JEDEC: MO-137; ComponentLink1Description: Manufacturer URL; ComponentLink1URL: http://www.maximintegrated.com/; ComponentLink2Description: Datasheet; ComponentLink2URL: http://datasheets.maximintegrated.com/en/ds/MAX6697.pdf; ComponentLink3Description: Package Specification; ComponentLink3URL: http://pdfserv.maximintegrated.com/package_dwgs/21-0055.PDF
footprint MAXM-E20-1_N (SOP, 20-Leads, Body 8.65x3.9mm, Pitch 0.635mm, IPC Medium Density)
footprint MAXM-E20-1_L (SOP, 20-Leads, Body 8.65x3.9mm, Pitch 0.635mm, IPC High Density)
footprint MAXM-E20-1_M (SOP, 20-Leads, Body 8.65x3.9mm, Pitch 0.635mm, IPC Low Density)
pins: 1 DXP1 "Combined Current Source and A/D Positive Input for Channel 1 Remote Diode. Connect to the anode of a remote-diode-connected temperature-sensing transistor. Leave floating or connect to VCC if no remote diode is used. Place a (See Datasheet)", 2 DXN1 "Cathode Input for Channel 1 Remote Diode. Connect the cathode of the channel 1 remote-diodeconnected transistor to DXN1.", 3 DXP2 "Combined Current Source and A/D Positive Input for Channel 2 Remote Diode. Connect to the anode of a remote-diode-connected temperature-sensing transistor. Leave floating or connect to VCC if no remote diode is used. Place a (See Datasheet)", 4 DXN2 "Cathode Input for Channel 2 Remote Diode. Connect the cathode of the channel 2 remote-diodeconnected transistor to DXN2.", 5 DXP3 "Combined Current Source and A/D Positive Input for Channel 3 Remote Diode. Connect to the anode of a remote-diode-connected temperature-sensing transistor. Leave floating or connect to VCC if no remote diode is used. Place a (See Datasheet)", 6 DXN3 "Cathode Input for Channel 3 Remote Diode. Connect the cathode of the channel 3 remote-diodeconnected transistor to DXN3.", 7 DXP4 "Combined Current Source and A/D Positive Input for Channel 4 Remote Diode. Connect to the anode of a remote-diode-connected temperature-sensing transistor. Leave floating or connect to VCC if no remote diode is used. Place a (See Datasheet)", 8 DXN4 "Cathode Input for Channel 4 Remote Diode. Connect the cathode of the channel 4 remote-diodeconnected transistor to DXN4.", 9 DXP5 "Combined Current Source and A/D Positive Input for Channel 5 Remote Diode. Connect to the anode of a remote-diode-connected temperature-sensing transistor. Leave floating or connect to VCC if no remote diode is used. Place a (See Datasheet)", 10 DXN5 "Cathode Input for Channel 5 Remote Diode. Connect the cathode of the channel 5 remote-diodeconnected transistor to DXN5.", 11 DXN6 "Cathode Input for Channel 6 Remote Diode. Connect the cathode of the channel 6 remote-diodeconnected transistor to DXN6.", 12 DXP6 "Combined Current Source and A/D Positive Input for Channel 6 Remote Diode. Connect to the anode of a remote-diode-connected temperature-sensing transistor. Leave floating or connect to VCC if no remote diode is used. Place a (See Datasheet)", 13 NC "No Connect. Must be connected to ground.", 14 NC "No Connect. Must be connected to ground.", 15 ~{OVERT} (oc) "Overtemperature Active-Low, Open-Drain Output. O\V\E\R\T\ asserts low when the temperature of channels 1, 4, 5, and 6 exceeds the programmed threshold limit.", 16 VCC (power) "Supply Voltage Input. Bypass to GND with a 0.1µF capacitor.", 17 ~{ALERT} (oc) "SMBus Alert (Interrupt), Active-Low, Open-Drain Output. A\L\E\R\T\ asserts low when the temperature of any channel exceeds the programmed A\L\E\R\T\ threshold.", 18 SMBDATA (io) "SMBus Serial-Data Input/Output. Connect to a pullup resistor.", 19 SMBCLK (in) "SMBus Serial-Clock Input. Connect to a pullup resistor.", 20 GND (power) "Ground"

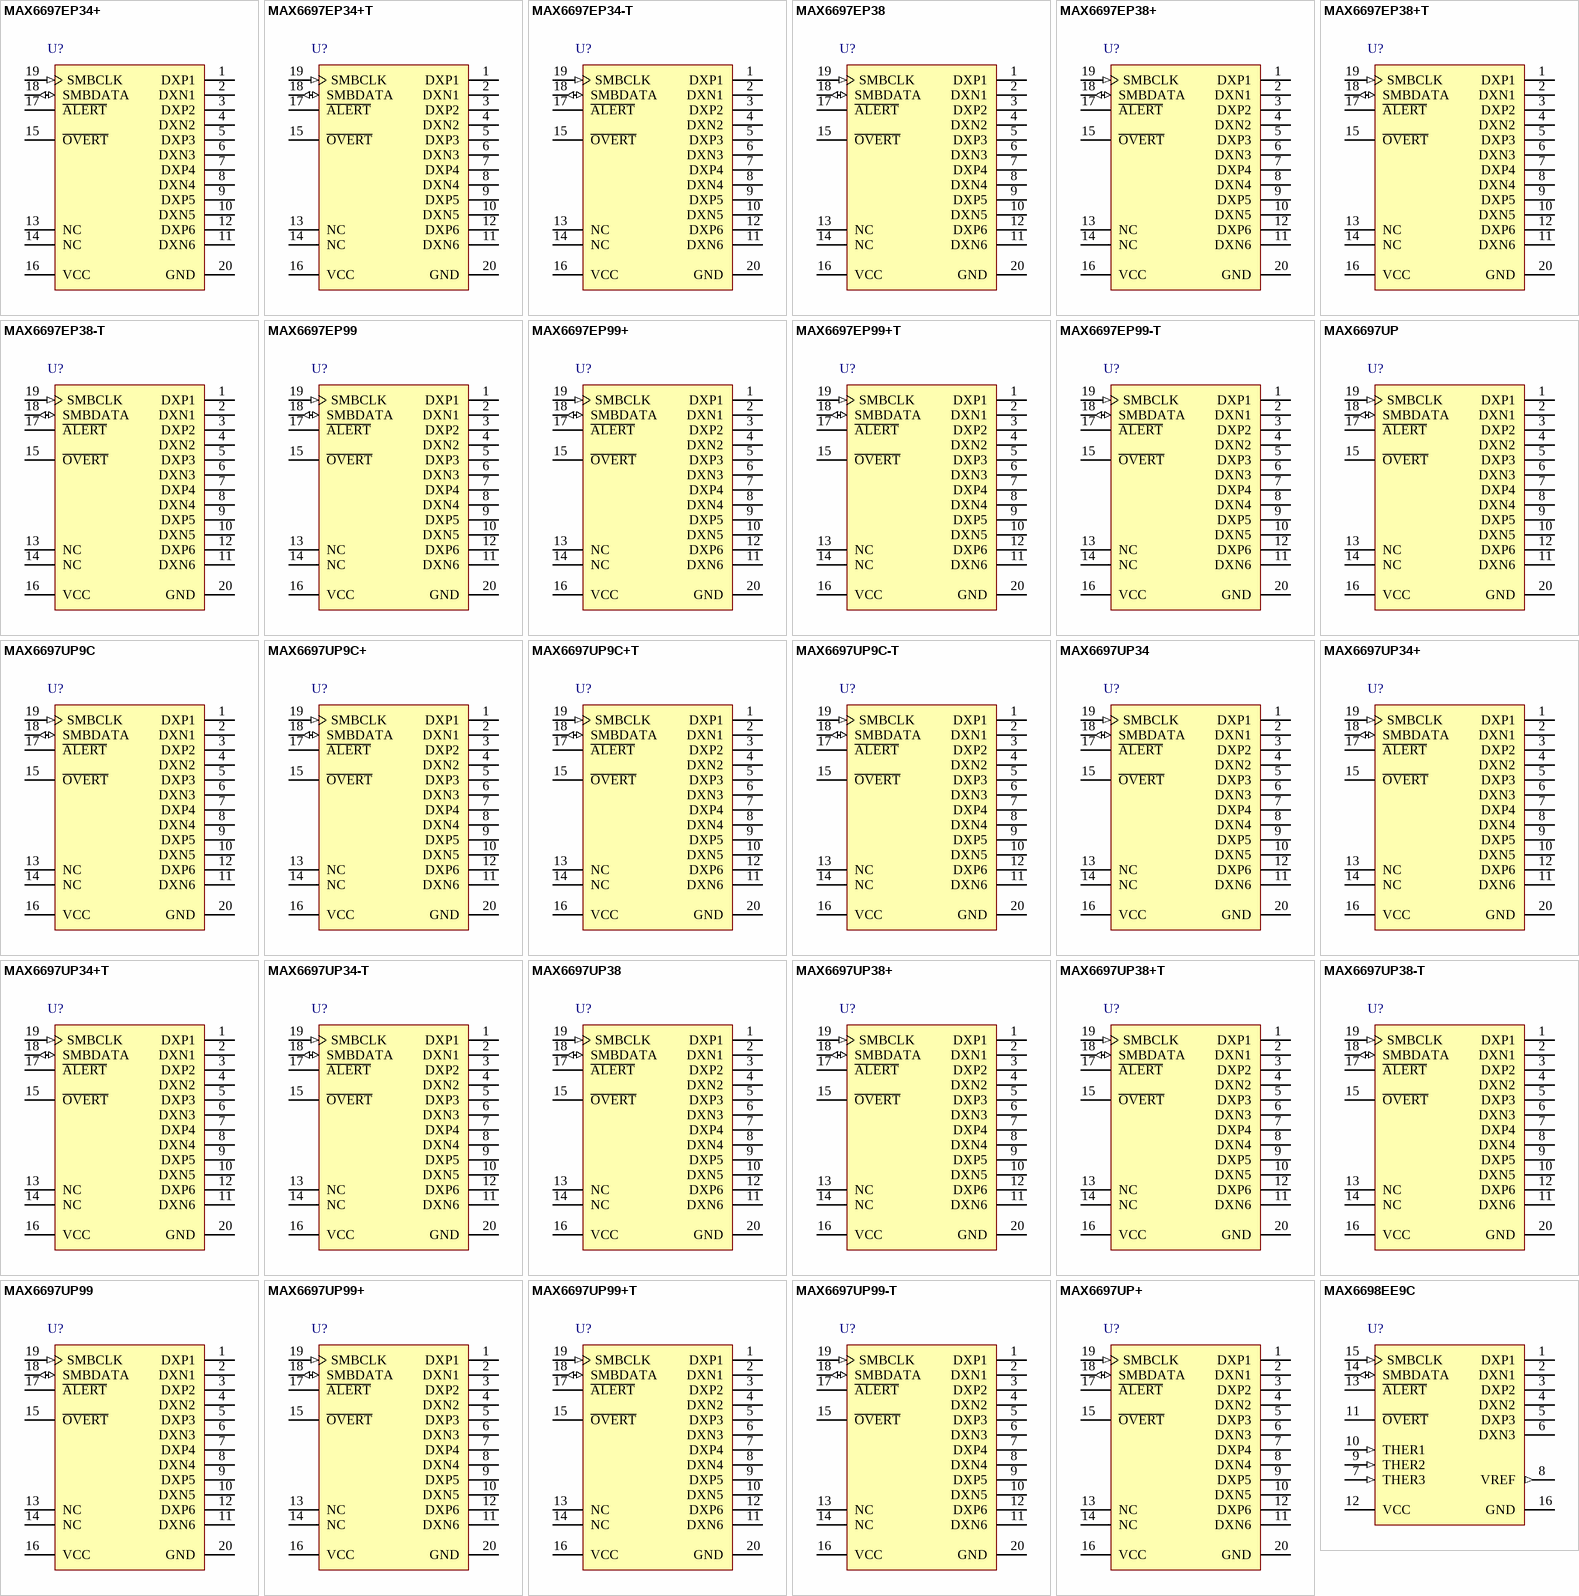
[diagram p26: symbols MAX6697EP34+ to MAX6698EE9C]